# EAGLE library part MICROSD (library adafruit)
Micro-SD / Transflash card holder with SPI pinout For the 3M # 2908-05WB-MG and/or 4UCON #19656 push-push type
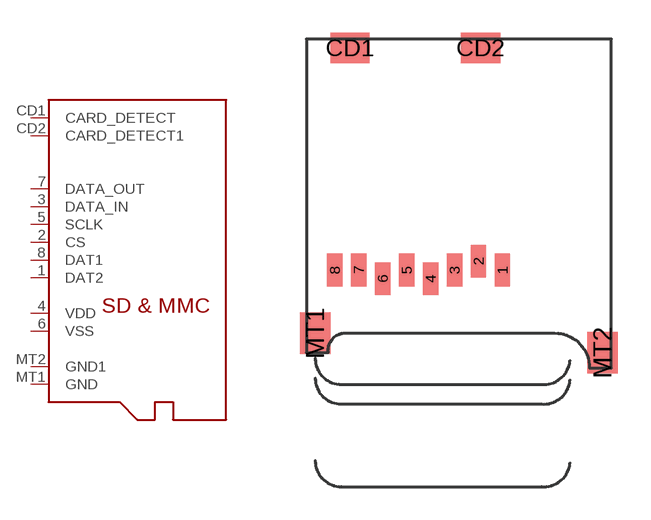
[diagram p53: symbol with the pads of MICROSD; footprint MICROSD]

Designator prefix -

## MICROSD  [MICROSD]
1  DAT2
2  CS  in
3  DATA_IN  in
4  VDD  sup
5  SCLK  in
6  VSS  sup
7  DATA_OUT  out
8  DAT1
CD1  CARD_DETECT  pas
CD2  CARD_DETECT1  pas
MT1  GND  sup
MT2  GND1  sup

## Footprint MICROSD (pad centres in mm)
smd 0.7 x 1.5: 1 9,-10.64; 2 7.9,-10.24; 3 6.8,-10.64; 4 5.7,-11.04; 5 4.6,-10.64; 6 3.5,-11.04; 7 2.4,-10.64; 8 1.3,-10.64
smd 1.8 x 1.4: CD1 2,-0.44; CD2 8,-0.44
smd 1.4 x 1.9: MT1 0.4,-13.54; MT2 13.6,-14.44